# EAGLE library part LTC4314 (library Semiconductors > Integrated Circuits - ICs > Interface ICs > Multiplexers)
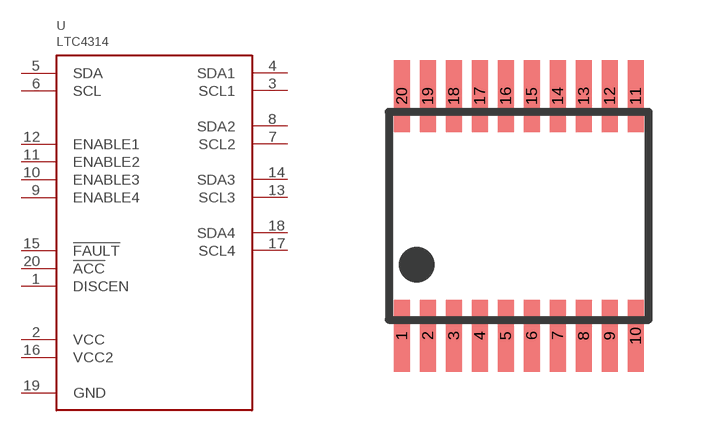
[diagram p0: symbol with the pads of SSOP20; footprint SSOP20]

Designator prefix U

## LTC4314  [SSOP20]
1  DISCEN
2  VCC
3  SCL1
4  SDA1
5  SDA
6  SCL
7  SCL2
8  SDA2
9  ENABLE4
10  ENABLE3
11  ENABLE2
12  ENABLE1
13  SCL3
14  SDA3
15  !FAULT
16  VCC2
17  SCL4
18  SDA4
19  GND
20  !ACC

## Footprint SSOP20 (pad centres in mm)
smd 0.4 x 1.8: 1 -2.925,-3; 2 -2.275,-3; 3 -1.625,-3; 4 -0.975,-3; 5 -0.325,-3; 6 0.325,-3; 7 0.975,-3; 8 1.625,-3; 9 2.275,-3; 10 2.925,-3; 11 2.925,3; 12 2.275,3; 13 1.625,3; 14 0.975,3; 15 0.325,3; 16 -0.325,3; 17 -0.975,3; 18 -1.625,3; 19 -2.275,3; 20 -2.925,3